# Altium footprint library LP3961ES-2P5.PcbLib: 3 footprints
Each footprint in its own frame and in the unit in brackets; x right, y up, seen from the top. Pads: shape width x height; smd on the part's side, far side on the other; paste and mask are expansions set on the pad; w line width, h text height; cw(c..) or ccw(c..) is an arc to the next point about the centre after c.
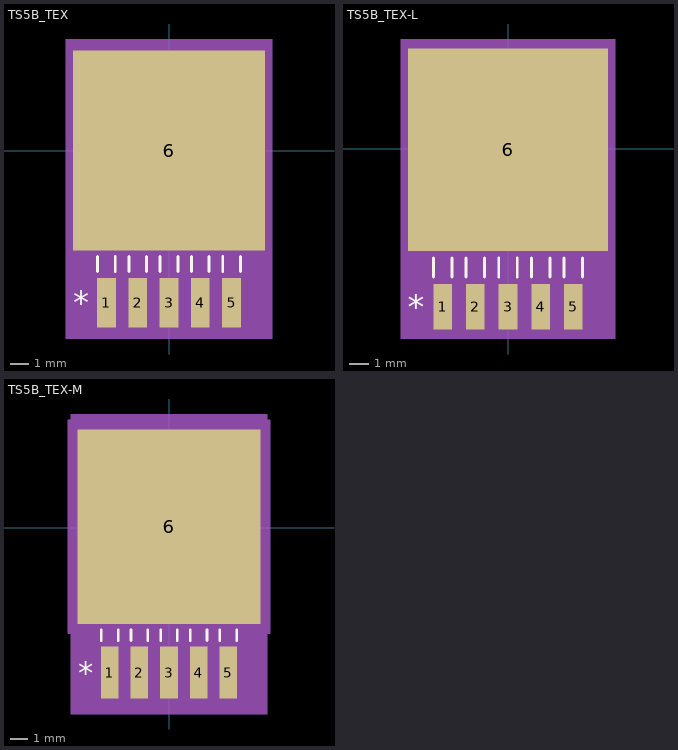
[diagram p0: the footprints below, top view; thin cyan lines are the x and y axes]

## TS5B_TEX [mil]
pads (6):
  rect 39.97x105.56 smd paste+0 mask+0: 1(-134,-326) 2(-67,-326) 3(0,-326) 4(67,-326) 5(134,-326)
  rect 412x428 smd paste+0 mask+0: 6(0,0)
Top Overlay:
  lines w6: -153,-259.22 -153,-227.1 ; -115,-259.22 -115,-227.1 ; -86,-259.22 -86,-227.1 ; -48,-259.22 -48,-227.1 ; -19,-259.22 -19,-227.1 ; 19,-259.22 19,-227.1 ; 48,-259.22 48,-227.1 ; 86,-259.22 86,-227.1 ; 115,-259.22 115,-227.1 ; 153,-259.22 153,-227.1
  text "*" at -205,-351 h50
Mechanical 5:
  region: -221,239 221,239 221,-403.78 -221,-403.78
Mechanical 13:
  lines w1: -205,-200 205,-200 205,200 -205,200 -205,-200 ; -153,-365 -153,-200 -115,-200 -115,-365 -153,-365 ; -86,-365 -86,-200 -48,-200 -48,-365 -86,-365 ; -19,-365 -19,-200 19,-200 19,-365 -19,-365 ; 48,-365 48,-200 86,-200 86,-365 48,-365 ; 115,-365 115,-200 153,-200 153,-365 115,-365
  text "*" at -146.5,-215 h50
Mechanical 15:
  region: -163.98,-224 -216,-224 -216,224 216,224 216,-224 163.98,-224 163.98,-388.78 -163.98,-388.78
  lines w6: -216,-224 -216,224 216,224 216,-224 163.98,-224 163.98,-388.78 -163.98,-388.78 -163.98,-224 -216,-224
3D body "TS5B_TEX.step": height 189.09, standoff -2.01, extent -205,-277.52 205,200.12

## TS5B_TEX-L [mil]
pads (6):
  rect 38x93.75 smd paste+0 mask+0: 1(-134,-324.03) 2(-67,-324.03) 3(0,-324.03) 4(67,-324.03) 5(134,-324.03)
  rect 410x416 smd paste+0 mask+0: 6(0,-2)
Top Overlay:
  lines w6: -153,-263.16 -153,-224 ; -115,-263.16 -115,-224 ; -86,-263.16 -86,-224 ; -48,-263.16 -48,-224 ; -19,-263.16 -19,-224 ; 19,-263.16 19,-224 ; 48,-263.16 48,-224 ; 86,-263.16 86,-224 ; 115,-263.16 115,-224 ; 153,-263.16 153,-224
  text "*" at -205,-349.03 h50
Mechanical 5:
  region: -220,225 220,225 220,-389.91 -220,-389.91
Mechanical 13:
  lines w1: -205,-200 205,-200 205,200 -205,200 -205,-200 ; -153,-365 -153,-200 -115,-200 -115,-365 -153,-365 ; -86,-365 -86,-200 -48,-200 -48,-365 -86,-365 ; -19,-365 -19,-200 19,-200 19,-365 -19,-365 ; 48,-365 48,-200 86,-200 86,-365 48,-365 ; 115,-365 115,-200 153,-200 153,-365 115,-365
  text "*" at -146.5,-215 h50
Mechanical 15:
  region: -157,-214 -209,-214 -209,210 209,210 209,-214 157,-214 157,-374.91 -157,-374.91
  lines w6: -209,-214 -209,210 209,210 209,-214 157,-214 157,-374.91 -157,-374.91 -157,-214 -209,-214
3D body "TS5B_TEX.step": height 189.09, standoff -2.01, extent -205,-277.52 205,200.12

## TS5B_TEX-M [mil]
pads (6):
  rect 39.97x117.37 smd paste+0 mask+0: 1(-134,-327.97) 2(-67,-327.97) 3(0,-327.97) 4(67,-327.97) 5(134,-327.97)
  rect 414x440 smd paste+0 mask+0: 6(0,2)
Top Overlay:
  lines w6: -153,-255.28 -153,-231.1 ; -115,-255.28 -115,-231.1 ; -86,-255.28 -86,-231.1 ; -48,-255.28 -48,-231.1 ; -19,-255.28 -19,-231.1 ; 19,-255.28 19,-231.1 ; 48,-255.28 48,-231.1 ; 86,-255.28 86,-231.1 ; 115,-255.28 115,-231.1 ; 153,-255.28 153,-231.1
  text "*" at -205,-352.97 h50
Mechanical 5:
  region: -222,257 222,257 222,-421.65 -222,-421.65
Mechanical 13:
  lines w1: -205,-200 205,-200 205,200 -205,200 -205,-200 ; -153,-365 -153,-200 -115,-200 -115,-365 -153,-365 ; -86,-365 -86,-200 -48,-200 -48,-365 -86,-365 ; -19,-365 -19,-200 19,-200 19,-365 -19,-365 ; 48,-365 48,-200 86,-200 86,-365 48,-365 ; 115,-365 115,-200 153,-200 153,-365 115,-365
  text "*" at -146.5,-215 h50
Mechanical 15:
  region: -173.98,-238 -227,-238 -227,242 227,242 227,-238 173.98,-238 173.98,-406.65 -173.98,-406.65
  lines w6: -227,-238 -227,242 227,242 227,-238 173.98,-238 173.98,-406.65 -173.98,-406.65 -173.98,-238 -227,-238
3D body "TS5B_TEX.step": height 189.09, standoff -2.01, extent -205,-277.52 205,200.12